# EAGLE library part ADS1015IDGSR (library ADS1015)
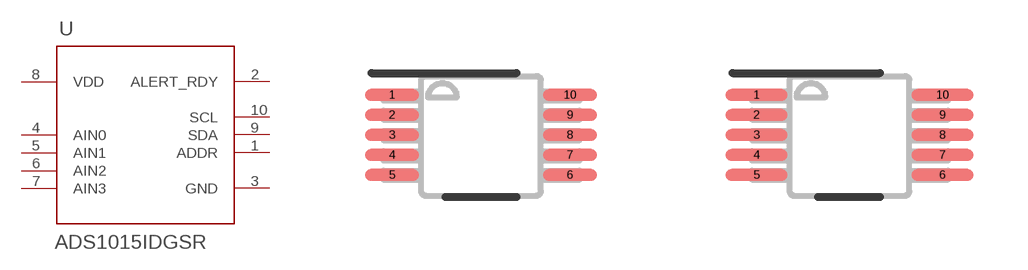
[diagram p0: symbol with the pads of DGS0010A_N; footprints DGS0010A_N, DGS0010A_M]

Designator prefix U

## ADS1015IDGSR (COPYRIGHT: Copyright (C) 2021 Ultra Librarian. All rights reserved.; MANUFACTURER_PART_NUMBER: ADS1015IDGSR; MFR_NAME: Texas Instruments; REFDES: RefDes; TYPE: TYPE)  [DGS0010A_N]
1  ADDR  in
2  ALERT_RDY  out
3  GND  pwr
4  AIN0  in
5  AIN1  in
6  AIN2  in
7  AIN3  in
8  VDD  pwr
9  SDA
10  SCL  in

## ADS1015IDGSRDGS0010A_M (COPYRIGHT: Copyright (C) 2021 Ultra Librarian. All rights reserved.; MANUFACTURER_PART_NUMBER: ADS1015IDGSR; MFR_NAME: Texas Instruments; REFDES: RefDes; TYPE: TYPE)  [DGS0010A_M]
Pads as for DGS0010A_N

## ADS1015IDGSRDGS0010A_L (COPYRIGHT: Copyright (C) 2021 Ultra Librarian. All rights reserved.; MANUFACTURER_PART_NUMBER: ADS1015IDGSR; MFR_NAME: Texas Instruments; REFDES: RefDes; TYPE: TYPE)  [DGS0010A_L]
Pads as for DGS0010A_N

## Footprint DGS0010A_N (pad centres in mm)
smd 1.35 x 0.3: 1 -2.225,1; 2 -2.225,0.5; 3 -2.225,0; 4 -2.225,-0.5; 5 -2.225,-1; 6 2.225,-1; 7 2.225,-0.5; 8 2.225,0; 9 2.225,0.5; 10 2.225,1

## Footprint DGS0010A_M (pad centres in mm)
smd 1.55 x 0.3: 1 -2.325,1; 2 -2.325,0.5; 3 -2.325,0; 4 -2.325,-0.5; 5 -2.325,-1; 6 2.325,-1; 7 2.325,-0.5; 8 2.325,0; 9 2.325,0.5; 10 2.325,1

## Footprint DGS0010A_L (pad centres in mm)
smd 1.15 x 0.25: 1 -2.125,1; 2 -2.125,0.5; 3 -2.125,0; 4 -2.125,-0.5; 5 -2.125,-1; 6 2.125,-1; 7 2.125,-0.5; 8 2.125,0; 9 2.125,0.5; 10 2.125,1